# Altium footprint library con-hirschmann.PCBLIB: 22 footprints (part 1 of 2)
Each footprint in its own frame and in the unit in brackets; x right, y up, seen from the top. Pads: shape width x height; smd on the part's side, far side on the other; paste and mask are expansions set on the pad; w line width, h text height; cw(c..) or ccw(c..) is an arc to the next point about the centre after c.
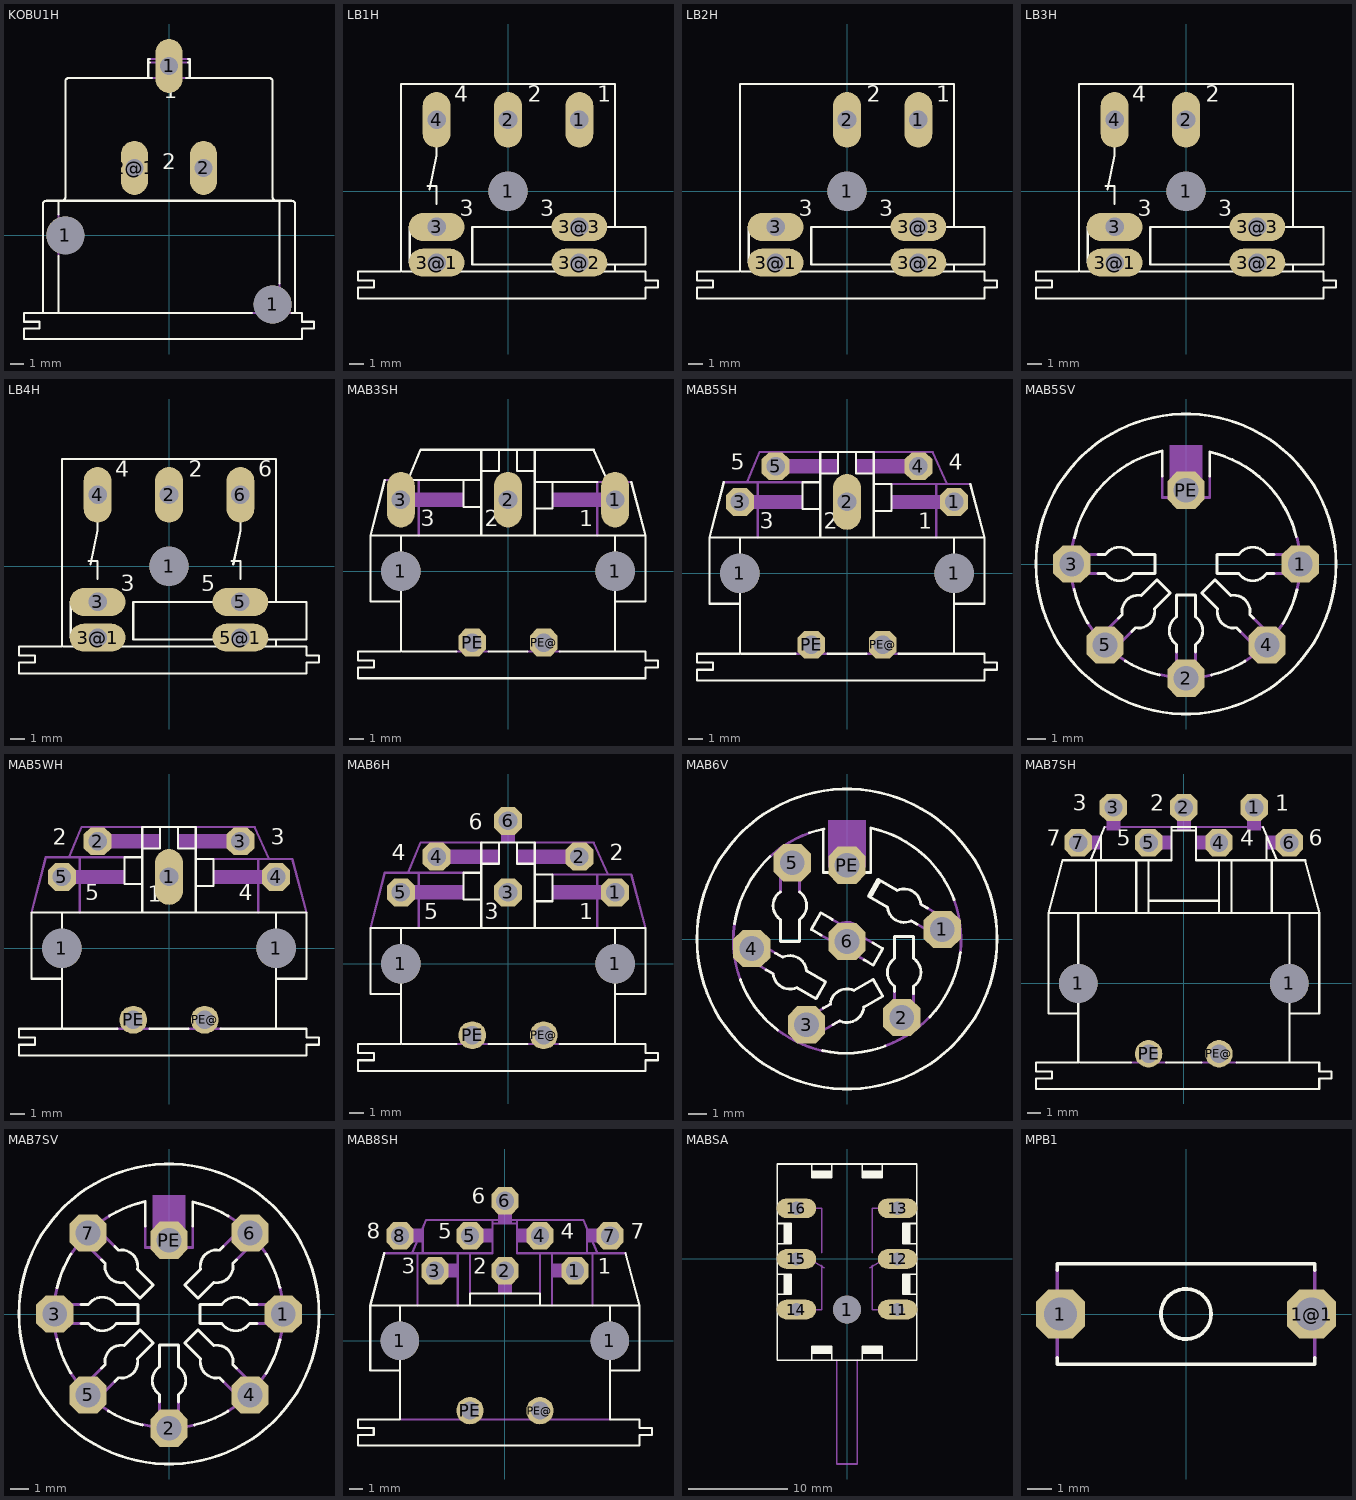
[diagram p0: the footprints below, top view; thin cyan lines are the x and y axes]

## KOBU1H [mil]
pads (5):
  round 110 hole 110: 1(-300,0) 1(300,-200)
  oval 78x156 hole 52: 1(0,490) 2(100,195) 2@1(-100,195)
Top Overlay:
  lines w6: -320,-60 -320,-225 ; -320,60 -320,100 ; -310,100 ccw(c-310,110) -300,110 -300,445 cw(c-290,445) -290,455 -60,455 ; -55,500 -60,500 ; -55,510 -60,510 -60,500 ; -50,455 -60,455 ; 50,455 60,455 ; 55,500 60,500 ; 55,510 60,510 60,500 ; 240,-225 -320,-225 ; 310,100 cw(c310,110) 300,110 300,445 ccw(c290,445) 290,455 60,455 ; 320,-140 320,100 ; 355,-225 365,-225 ; -365,-225 -420,-225 -420,-250 -375,-250 -375,-270 -420,-270 -420,-300 385,-300 385,-270 420,-270 420,-250 385,-250 385,-225 365,-225 ; -365,-225 -365,90 cw(c-355,90) -355,100 -320,100 ; -365,-225 -320,-225 ; -320,100 320,100 ; -60,455 -60,500 ; 60,455 60,500 ; 320,100 355,100 cw(c355,90) 365,90 365,-225
  text "1" at -15,380 h77.5
  text "2" at -20,175 h77.5
Mechanical 16:
  lines w6: -320,-60 -320,60 ; -55,500 55,500 ; -55,510 55,510 ; -50,455 50,455 ; 240,-225 320,-225 ; 320,-140 320,-225 ; 355,-225 320,-225

## LB1H [mil]
pads (8):
  round 110 hole 110: 1(0,0)
  oval 78x156 hole 52: 1(200,200) 2(0,200) 4(-200,200)
  oval 156x78 hole 52: 3(-200,-100) 3@1(-200,-200) 3@2(200,-200) 3@3(200,-100)
Top Overlay:
  lines w6: -295,-225 -255,-225 ; -260,-200 -275,-200 -275,-100 -260,-100 ; -225,15 -200,15 -200,-35 ; -220,5 -200,100 -200,140 ; -145,-225 145,-225 ; 140,-205 -100,-205 -100,-100 140,-100 ; 255,-225 300,-225 ; 255,-205 300,-205 ; 260,-100 300,-100 ; 300,-225 300,-205 ; 300,-225 385,-225 385,-250 420,-250 420,-270 385,-270 385,-300 -420,-300 -420,-270 -375,-270 -375,-250 -420,-250 -420,-225 -300,-225 -300,300 300,300 300,-100 ; 300,-205 385,-205 385,-100 300,-100
  text "2" at 55,235 h77.5
  text "1" at 250,235 h77.5
  text "4" at -150,235 h77.5
  text "3" at -135,-85 h77.5
  text "3" at 90,-85 h77.5
Mechanical 16:
  lines w6: -255,-225 -145,-225 ; 140,-205 255,-205 ; 140,-100 260,-100 ; 145,-225 255,-225

## LB2H [mil]
pads (7):
  round 110 hole 110: 1(0,0)
  oval 78x156 hole 52: 1(200,200) 2(0,200)
  oval 156x78 hole 52: 3(-200,-100) 3@1(-200,-200) 3@2(200,-200) 3@3(200,-100)
Top Overlay:
  lines w6: -295,-225 -255,-225 ; -260,-200 -275,-200 -275,-100 -260,-100 ; -145,-225 145,-225 ; 140,-205 -100,-205 -100,-100 140,-100 ; 255,-225 300,-225 ; 255,-205 300,-205 ; 260,-100 300,-100 ; 300,-225 300,-205 ; 300,-225 385,-225 385,-250 420,-250 420,-270 385,-270 385,-300 -420,-300 -420,-270 -375,-270 -375,-250 -420,-250 -420,-225 -300,-225 -300,300 300,300 300,-100 ; 300,-205 385,-205 385,-100 300,-100
  text "2" at 55,235 h77.5
  text "1" at 250,235 h77.5
  text "3" at -135,-85 h77.5
  text "3" at 90,-85 h77.5
Mechanical 16:
  lines w6: -255,-225 -145,-225 ; 140,-205 255,-205 ; 140,-100 260,-100 ; 145,-225 255,-225

## LB3H [mil]
pads (7):
  round 110 hole 110: 1(0,0)
  oval 78x156 hole 52: 2(0,200) 4(-200,200)
  oval 156x78 hole 52: 3(-200,-100) 3@1(-200,-200) 3@2(200,-200) 3@3(200,-100)
Top Overlay:
  lines w6: -295,-225 -255,-225 ; -260,-200 -275,-200 -275,-100 -260,-100 ; -225,15 -200,15 -200,-35 ; -220,5 -200,100 -200,140 ; -145,-225 145,-225 ; 140,-205 -100,-205 -100,-100 140,-100 ; 255,-225 300,-225 ; 255,-205 300,-205 ; 260,-100 300,-100 ; 300,-225 300,-205 ; 300,-225 385,-225 385,-250 420,-250 420,-270 385,-270 385,-300 -420,-300 -420,-270 -375,-270 -375,-250 -420,-250 -420,-225 -300,-225 -300,300 300,300 300,-100 ; 300,-205 385,-205 385,-100 300,-100
  text "2" at 55,235 h77.5
  text "4" at -150,235 h77.5
  text "3" at -135,-85 h77.5
  text "3" at 90,-85 h77.5
Mechanical 16:
  lines w6: -255,-225 -145,-225 ; 140,-205 255,-205 ; 140,-100 260,-100 ; 145,-225 255,-225

## LB4H [mil]
pads (8):
  round 110 hole 110: 1(0,0)
  oval 78x156 hole 52: 2(0,200) 4(-200,200) 6(200,200)
  oval 156x78 hole 52: 3(-200,-100) 3@1(-200,-200) 5(200,-100) 5@1(200,-200)
Top Overlay:
  lines w6: -295,-225 -255,-225 ; -260,-200 -275,-200 -275,-100 -260,-100 ; -225,15 -200,15 -200,-35 ; -220,5 -200,100 -200,140 ; -145,-225 145,-225 ; 140,-205 -100,-205 -100,-100 140,-100 ; 175,15 200,15 200,-35 ; 180,5 200,100 200,140 ; 255,-225 300,-225 ; 255,-205 300,-205 ; 260,-100 300,-100 ; 300,-225 300,-205 ; 300,-225 385,-225 385,-250 420,-250 420,-270 385,-270 385,-300 -420,-300 -420,-270 -375,-270 -375,-250 -420,-250 -420,-225 -300,-225 -300,300 300,300 300,-100 ; 300,-205 385,-205 385,-100 300,-100
  text "2" at 55,235 h77.5
  text "4" at -150,235 h77.5
  text "3" at -135,-85 h77.5
  text "5" at 90,-85 h77.5
  text "6" at 250,235 h77.5
Mechanical 16:
  lines w6: -255,-225 -145,-225 ; 140,-205 255,-205 ; 140,-100 260,-100 ; 145,-225 255,-225

## MAB3SH [mil]
pads (7):
  round 110 hole 110: 1(-300,0) 1(300,0)
  oval 78x156 hole 52: 1(300,200) 2(0,200) 3(-300,200)
  oct 78x78 hole 52: PE(-100,-200) PE@(100,-200)
Top Overlay:
  lines w6: -345,255 -385,100 ; -300,-55 -300,-85 ; -300,55 -300,100 ; -295,-225 -145,-225 ; -55,-225 55,-225 ; 145,-225 300,-225 ; 250,250 125,250 ; 280,250 240,340 75,340 ; 300,-55 300,-85 ; 300,55 300,100 ; 345,250 385,100 ; -385,100 -300,100 ; -385,100 -385,-85 -300,-85 ; -300,-85 -300,-225 -420,-225 -420,-250 -375,-250 -375,-270 -420,-270 -420,-300 385,-300 385,-270 420,-270 420,-250 385,-250 385,-225 300,-225 ; -300,100 -75,100 ; -125,255 -75,255 ; -125,255 -125,180 -75,180 ; -125,255 -280,255 -245,340 -75,340 ; -75,100 75,100 ; -75,100 -75,180 ; -75,180 -75,255 ; -75,255 -75,280 ; -75,280 -75,340 ; -75,280 -25,280 -25,340 ; -75,340 -25,340 ; -25,340 25,340 ; 25,340 75,340 ; 25,340 25,280 75,280 ; 75,100 300,100 ; 75,100 75,175 ; 75,175 75,250 ; 75,175 125,175 125,250 ; 75,250 125,250 ; 75,250 75,280 ; 75,280 75,340 ; 300,-225 300,-85 ; 300,-85 385,-85 385,100 ; 300,100 385,100
  text "2" at -65,110 h77.5
  text "3" at -245,110 h77.5
  text "1" at 200,110 h77.5
Mechanical 16:
  rectangle: 125,180 315,220
  rectangle: -315,180 -125,220
  lines w6: -345,255 -280,255 ; -300,-55 -300,55 ; -250,100 -250,255 ; -145,-225 -55,-225 ; 55,-225 145,-225 ; 250,100 250,250 345,250 ; 300,-55 300,55

## MAB5SH [mil]
pads (9):
  round 110 hole 110: 1(-300,0) 1(300,0)
  oct 78x78 hole 52: 1(300,200) 3(-300,200) 4(200,300) 5(-200,300) PE(-100,-200) PE@(100,-200)
  oval 78x156 hole 52: 2(0,200)
Top Overlay:
  lines w6: -345,255 -385,100 ; -300,-55 -300,-85 ; -300,55 -300,100 ; -295,-225 -145,-225 ; -55,-225 55,-225 ; 145,-225 300,-225 ; 300,-55 300,-85 ; 300,55 300,100 ; 345,250 385,100 ; -385,100 -300,100 ; -385,100 -385,-85 -300,-85 ; -300,-85 -300,-225 -420,-225 -420,-250 -375,-250 -375,-270 -420,-270 -420,-300 385,-300 385,-270 420,-270 420,-250 385,-250 385,-225 300,-225 ; -300,100 -75,100 ; -75,100 75,100 ; -75,100 -75,180 ; -75,180 -75,255 ; -75,180 -125,180 -125,255 -75,255 ; -75,255 -75,280 ; -75,280 -75,340 -25,340 ; -75,280 -25,280 -25,340 ; -25,340 25,340 ; 25,340 75,340 75,280 ; 25,340 25,280 75,280 ; 75,100 300,100 ; 75,100 75,175 ; 75,175 75,250 ; 75,175 125,175 125,250 75,250 ; 75,250 75,280 ; 300,-225 300,-85 ; 300,-85 385,-85 385,100 ; 300,100 385,100
  text "2" at -65,110 h77.5
  text "4" at 285,275 h77.5
  text "5" at -325,275 h77.5
  text "3" at -245,110 h77.5
  text "1" at 200,110 h77.5
Mechanical 16:
  rectangle: 125,180 315,220
  rectangle: 25,280 215,320
  rectangle: -215,280 -25,320
  rectangle: -315,180 -125,220
  lines w6: -345,255 -280,255 ; -300,-55 -300,55 ; -250,100 -250,255 ; -145,-225 -55,-225 ; -125,255 -250,255 ; -75,340 -245,340 -280,255 ; 55,-225 145,-225 ; 75,340 240,340 280,250 ; 125,250 250,250 ; 250,100 250,250 ; 300,-55 300,55 ; 345,250 280,250 ; -280,255 -250,255 ; 250,250 280,250

## MAB5SV [mil]
pads (6):
  oct 78x78 hole 52: 1(240,0) 2(0,-240) 3(-240,0) 4(170,-170) 5(-170,-170) PE(0,155)
Top Overlay:
  circle w6: c0,0 r315
  lines w6: -234.79,-53.72 ccw(c-1.01,1.01) -206,-124 ; -234.29,55.25 cw(c-0.01,2) -50,237 -50,185 ; -185,-20 -169,-20 ccw(c-140,0) -111,-20 -65,-20 -65,20 -111,20 ccw(c-140,0) -169,20 -185,20 ; -142,-114 -134,-106 cw(c-100,-100) -94,-66 -61,-33 -33,-61 -66,-94 cw(c-100,-100) -106,-134 -114,-142 ; -127.49,-203.55 ccw(c-1.01,1.99) -56,-233 ; -20,-185 -20,-169 cw(c0,-140) -20,-111 -20,-65 20,-65 20,-111 cw(c0,-140) 20,-169 20,-185 ; 50,185 50,235 cw(c-2,0) 231.61,57.92 ; 53.72,-232.79 ccw(c-1.01,0.99) 124,-204 ; 114,-142 106,-134 cw(c100,-100) 66,-94 33,-61 61,-33 94,-66 cw(c100,-100) 134,-106 142,-114 ; 185,-20 169,-20 cw(c140,0) 111,-20 65,-20 65,20 111,20 cw(c140,0) 169,20 185,20 ; 204.06,-124.65 ccw(c-2,1.01) 233,-54
Mechanical 16:
  rectangle: -35,150 35,250
  lines w6: -235,-55 cw(c0,0) -235,55 ; -206,-124 ccw(c-1,1) -126,-204 ; -184,-20 -215,-20 -215,20 -184,20 ; -144,-116 -167,-139 -139,-167 -116,-144 ; -55.78,-232.11 ccw(c1.01,1.99) 54,-233 ; -50,185 -50,140 50,140 50,185 ; -20,-184 -20,-215 20,-215 20,-184 ; 116,-144 139,-167 167,-139 144,-116 ; 124,-204 ccw(c-1,1) 204,-124 ; 184,-20 215,-20 215,20 184,20 ; 233,-54 ccw(c-2,1) 233,56

## MAB5WH [mil]
pads (9):
  round 110 hole 110: 1(-300,0) 1(300,0)
  oval 78x156 hole 52: 1(0,200)
  oct 78x78 hole 52: 2(-200,300) 3(200,300) 4(300,200) 5(-300,200)
  round 78 hole 52: PE(-100,-200) PE@(100,-200)
Top Overlay:
  lines w6: -300,-55 -300,-85 ; -300,55 -300,100 ; -295,-225 -145,-225 ; -55,-225 55,-225 ; 145,-225 300,-225 ; 300,-55 300,-85 ; 300,55 300,100 ; -300,-85 -300,-225 -420,-225 -420,-250 -375,-250 -375,-270 -420,-270 -420,-300 385,-300 385,-270 420,-270 420,-250 385,-250 385,-225 300,-225 ; -300,-85 -385,-85 -385,100 -300,100 ; -300,100 -75,100 ; -75,100 75,100 ; -75,100 -75,180 ; -75,180 -75,255 ; -75,180 -125,180 -125,255 -75,255 ; -75,255 -75,280 ; -75,280 -75,340 -25,340 ; -75,280 -25,280 -25,340 ; -25,340 25,340 ; 25,340 75,340 75,280 ; 25,340 25,280 75,280 ; 75,100 300,100 ; 75,100 75,175 ; 75,175 75,250 ; 75,175 125,175 125,250 75,250 ; 75,250 75,280 ; 300,-225 300,-85 ; 300,-85 385,-85 385,100 300,100
  text "1" at -60,115 h77.5
  text "4" at 195,120 h77.5
  text "3" at 285,275 h77.5
  text "2" at -325,275 h77.5
  text "5" at -235,120 h77.5
Mechanical 16:
  rectangle: 125,180 315,220
  rectangle: 25,280 215,320
  rectangle: -215,280 -25,320
  rectangle: -315,180 -125,220
  lines w6: -385,100 -345,255 -280,255 ; -300,-55 -300,55 ; -250,100 -250,255 ; -145,-225 -55,-225 ; -125,255 -250,255 ; -75,340 -245,340 -280,255 ; 55,-225 145,-225 ; 75,340 240,340 280,250 ; 125,250 250,250 ; 250,100 250,250 ; 300,-55 300,55 ; 385,100 345,250 280,250 ; -280,255 -250,255 ; 250,250 280,250

## MAB6H [mil]
pads (10):
  round 110 hole 110: 1(-300,0) 1(300,0)
  oct 78x78 hole 52: 1(300,200) 2(200,300) 3(0,200) 4(-200,300) 5(-300,200) 6(0,400)
  round 78 hole 52: PE(-100,-200) PE@(100,-200)
Top Overlay:
  lines w6: -300,-55 -300,-85 ; -300,55 -300,100 ; -295,-225 -145,-225 ; -55,-225 55,-225 ; 145,-225 300,-225 ; 300,-55 300,-85 ; 300,55 300,100 ; -300,-85 -300,-225 -420,-225 -420,-250 -375,-250 -375,-270 -420,-270 -420,-300 385,-300 385,-270 420,-270 420,-250 385,-250 385,-225 300,-225 ; -300,-85 -385,-85 -385,100 -300,100 ; -300,100 -75,100 ; -75,100 75,100 ; -75,100 -75,180 ; -75,180 -75,255 ; -75,180 -125,180 -125,255 -75,255 ; -75,255 -75,280 ; -75,280 -75,340 -25,340 ; -75,280 -25,280 -25,340 ; -25,340 25,340 ; 25,340 75,340 75,280 ; 25,340 25,280 75,280 ; 75,100 300,100 ; 75,100 75,175 ; 75,175 75,250 ; 75,175 125,175 125,250 75,250 ; 75,250 75,280 ; 300,-225 300,-85 ; 300,-85 385,-85 385,100 300,100
  text "1" at 200,110 h77.5
  text "3" at -65,110 h77.5
  text "5" at -235,110 h77.5
  text "4" at -325,275 h77.5
  text "6" at -110,360 h77.5
  text "2" at 285,275 h77.5
Mechanical 16:
  rectangle: 125,180 315,220
  rectangle: 25,280 215,320
  rectangle: -215,280 -25,320
  rectangle: -315,180 -125,220
  rectangle: -20,340 20,415
  lines w6: -385,100 -345,255 -280,255 ; -300,-55 -300,55 ; -250,100 -250,255 ; -145,-225 -55,-225 ; -125,255 -250,255 ; -75,340 -245,340 -280,255 ; 55,-225 145,-225 ; 75,340 240,340 280,250 ; 125,250 250,250 ; 250,100 250,250 ; 300,-55 300,55 ; 385,100 345,250 280,250 ; -280,255 -250,255 ; 250,250 280,250

## MAB6V [mil]
pads (7):
  oct 78x78 hole 52: 1(200,20) 2(115,-165) 3(-85,-180) 4(-200,-20) 5(-115,160) 6(0,-5) PE(0,155)
Top Overlay:
  circle w6: c0,0 r315
  lines w6: -236,32 cw(c1,-3) -161.54,173 ; -223.97,-85.24 ccw(c1.01,-1) -146,-191 ; -170,-65 -155,-73 ccw(c-120,-70) -105.09,-101.81 ; -150,-30 -135,-38 ; -140,99 ccw(c-120,70) -140,41 -140,-5 -100,-5 -100,41 ccw(c-120,70) -100,99 ; -134.91,-38.19 cw(c-120,-70) -85,-67 -45,-90 -65,-125 -105,-102 ; -79,223 cw(c-3.95,-3.97) -48.33,230.93 ; -54,8 -75,20 -55,55 -31,41 ; -51.64,-234.48 ccw(c-2,-5) 80,-225 ; -50,-145 -35,-137 ; -50,230 -50,140 -40,140 ; -35.21,-136.98 cw(c0,-140) 15,-108 55,-85 75,-120 35,-143 ; -30,-180 -15,-172 ccw(c0,-140) 35.21,-143.02 ; 36,-44 55,-55 75,-20 54,-8 ; 40,140 50,140 50,233 cw(c0,-2) 224.96,82.36 ; 52,92 67,118 ; 100,-110 100,-99 cw(c120,-70) 100,-41 100,5 140,5 140,-41 cw(c120,-70) 140,-99 140,-115 ; 105,102 65,125 45,90 85,67 ccw(c120,70) 134.91,38.19 ; 105.09,101.81 cw(c120,70) 155,73 169,65 ; 135,38 147,31 ; 173.71,-163.44 ccw(c0,2) 238,-28
Mechanical 16:
  rectangle: -40,150 40,250
  lines w6: -236.43,31.77 ccw(c1,-2) -224,-85 ; -162,173 cw(c0.01,-4) -77.08,223.23 ; -155,-73 -195,-50 -175,-15 -135,-38 ; -146.49,-190.44 ccw(c-0.01,0) -50,-235 ; -140,99 -140,145 -100,145 -100,99 ; -56,9 -35,-3 ccw(c0,0) 14.91,-31.81 ; -40,140 40,140 ; -35,-137 -75,-160 -55,-195 -15,-172 ; -34,43 -15,32 ; -14.91,31.81 cw(c0,0) 35,3 59,-11 ; 15,-32 40,-46 ; 82.38,-223.61 ccw(c-1.01,1.99) 174,-163 ; 100,-109 100,-145 140,-145 140,-114 ; 135,38 175,15 195,50 155,73 ; 224,84 cw(c-0.99,-1) 237.74,-30.23

## MAB7SH [mil]
pads (11):
  round 110 hole 110: 1(-300,0) 1(300,0)
  oct 78x78 hole 52: 1(200,500) 2(0,500) 3(-200,500) 4(100,400) 5(-100,400) 6(300,400) 7(-300,400)
  round 78 hole 52: PE(-100,-200) PE@(100,-200)
Top Overlay:
  lines w6: -300,-55 -300,-85 ; -300,55 -300,200 ; -295,-225 -150,-225 ; -225,445 -235,420 ; -50,-225 50,-225 ; 150,-225 300,-225 ; 225,445 235,420 ; 300,-55 300,-85 ; 300,55 300,200 ; -385,200 -385,-85 -300,-85 ; -385,200 -345,350 -265,350 ; -385,200 -300,200 ; -300,-85 -300,-225 -420,-225 -420,-250 -375,-250 -375,-270 -420,-270 -420,-300 385,-300 385,-270 420,-270 420,-250 385,-250 385,-225 300,-225 ; -300,200 -250,200 ; -265,350 -250,350 ; -265,350 -235,420 ; -250,200 -250,350 ; -250,200 -135,200 ; -250,350 -235,350 ; -235,350 -135,350 ; -235,350 -235,420 ; -135,200 -100,200 ; -135,200 -135,350 ; -135,350 -100,350 ; -100,200 100,200 ; -100,200 -100,235 ; -100,235 -100,350 ; -100,235 100,235 ; -100,350 -35,350 -35,435 ; -35,435 35,435 ; -35,435 -35,445 35,445 35,435 ; 35,435 35,350 100,350 ; 100,200 100,235 ; 100,200 135,200 ; 100,235 100,350 ; 100,350 135,350 ; 135,200 250,200 ; 135,200 135,350 ; 135,350 235,350 ; 235,350 250,350 ; 235,350 235,420 ; 235,420 265,350 ; 250,200 300,200 ; 250,200 250,350 ; 250,350 265,350 ; 265,350 345,350 385,200 ; 300,-225 300,-85 ; 300,-85 385,-85 385,200 ; 300,200 385,200
  text "5" at -190,375 h77.5
  text "7" at -390,375 h77.5
  text "6" at 355,375 h77.5
  text "4" at 160,375 h77.5
  text "1" at 260,475 h77.5
  text "2" at -95,475 h77.5
  text "3" at -315,475 h77.5
Mechanical 16:
  rectangle: 180,435 220,515
  rectangle: -220,435 -180,515
  rectangle: 235,380 315,420
  rectangle: 35,380 115,420
  rectangle: -115,380 -35,420
  rectangle: -315,380 -235,420
  rectangle: -20,435 20,515
  lines w6: -300,-55 -300,55 ; -225,445 -35,445 ; -150,-225 -50,-225 ; 35,445 225,445 ; 50,-225 150,-225 ; 300,-55 300,55

## MAB7SV [mil]
pads (8):
  oct 78x78 hole 52: 1(240,0) 2(0,-240) 3(-240,0) 4(170,-170) 5(-170,-170) 6(170,170) 7(-170,170) PE(0,155)
Top Overlay:
  circle w6: c0,0 r315
  lines w6: -235,55 cw(c0,-0.01) -206.06,125.65 ; -234.79,-53.72 ccw(c-1.01,1.01) -206,-124 ; -185,-20 -169,-20 ccw(c-140,0) -111,-20 -65,-20 -65,20 -111,20 ccw(c-140,0) -169,20 -185,20 ; -142,-114 -134,-106 cw(c-100,-100) -94,-66 -61,-33 -33,-61 -66,-94 cw(c-100,-100) -106,-134 -114,-142 ; -142,114 -134,106 ccw(c-100,100) -94,66 -61,33 -33,61 -66,94 ccw(c-100,100) -106,134 -114,142 ; -127.49,-203.55 ccw(c-1.01,1.99) -56,-233 ; -125.28,206.01 cw(c0,1.01) -50,236 -50,185 ; -20,-185 -20,-169 cw(c0,-140) -20,-111 -20,-65 20,-65 20,-111 cw(c0,-140) 20,-169 20,-185 ; 50,185 50,235 cw(c-0.01,-0.01) 124.41,205.54 ; 53.72,-232.79 ccw(c-1.01,0.99) 124,-204 ; 114,-142 106,-134 cw(c100,-100) 66,-94 33,-61 61,-33 94,-66 cw(c100,-100) 134,-106 142,-114 ; 114,142 106,134 ccw(c100,100) 66,94 33,61 61,33 94,66 ccw(c100,100) 134,106 142,114 ; 185,-20 169,-20 cw(c140,0) 111,-20 65,-20 65,20 111,20 cw(c140,0) 169,20 185,20 ; 204,126 cw(c-0.99,0.99) 232.79,55.72 ; 204.06,-124.65 ccw(c-2,1.01) 233,-54
Mechanical 16:
  rectangle: -35,150 35,250
  lines w6: -235,-55 cw(c0,0) -235,55 ; -206,-124 ccw(c-1,1) -126,-204 ; -205,126 cw(c0,1) -125,206 ; -184,-20 -215,-20 -215,20 -184,20 ; -144,-116 -167,-139 -139,-167 -116,-144 ; -144,116 -167,139 -139,167 -116,144 ; -55.78,-232.11 ccw(c1.01,1.99) 54,-233 ; -50,185 -50,140 50,140 50,185 ; -20,-184 -20,-215 20,-215 20,-184 ; 116,-144 139,-167 167,-139 144,-116 ; 116,144 139,167 167,139 144,116 ; 124,-204 ccw(c-1,1) 204,-124 ; 124,206 cw(c-1,1) 204,126 ; 184,-20 215,-20 215,20 184,20 ; 233,-54 ccw(c-2,1) 233,56

## MAB8SH [mil]
pads (12):
  round 110 hole 110: 1(-300,0) 1(300,0)
  oct 78x78 hole 52: 1(200,200) 2(0,200) 3(-200,200) 4(100,300) 5(-100,300) 6(0,400) 7(300,300) 8(-300,300)
  round 78 hole 52: PE(-100,-200) PE@(100,-200)
Top Overlay:
  lines w6: -345,250 -385,100 ; -300,-55 -300,-85 ; -300,55 -300,100 ; 300,-55 300,-85 ; 300,55 300,100 ; 345,250 385,100 ; -385,100 -385,-85 -300,-85 ; -385,100 -300,100 ; -300,-85 -300,-225 -420,-225 -420,-250 -375,-250 -375,-270 -420,-270 -420,-300 385,-300 385,-270 420,-270 420,-250 385,-250 385,-225 300,-225 300,-85 ; -300,100 -100,100 ; -100,100 100,100 ; -100,100 -100,135 100,135 100,100 ; 100,100 300,100 ; 300,-85 385,-85 385,100 ; 300,100 385,100
  text "2" at -90,175 h77.5
  text "8" at -395,275 h77.5
  text "1" at 265,175 h77.5
  text "3" at -295,175 h77.5
  text "5" at -190,275 h77.5
  text "7" at 360,275 h77.5
  text "6" at -95,375 h77.5
  text "4" at 160,275 h77.5
Mechanical 16:
  rectangle: 135,180 215,220
  rectangle: -215,180 -135,220
  rectangle: 235,280 315,320
  rectangle: 35,280 115,320
  rectangle: -115,280 -35,320
  rectangle: -315,280 -235,320
  rectangle: -20,135 20,215
  rectangle: -20,335 20,415
  lines w6: -345,250 -265,250 ; -300,-55 -300,55 ; -295,-225 300,-225 ; -250,100 -250,250 ; -135,100 -135,250 ; -100,135 -100,250 ; 100,135 100,250 ; 135,100 135,250 ; 250,100 250,250 ; 300,-55 300,55 ; 345,250 265,250 ; -265,250 -250,250 ; -265,250 -235,320 ; -250,250 -235,250 ; -235,250 -135,250 ; -235,250 -235,320 ; -235,320 -225,345 -35,345 ; -135,250 -100,250 ; -100,250 -35,250 -35,335 ; -35,335 35,335 ; -35,335 -35,345 ; -35,345 35,345 ; 35,335 35,345 ; 35,335 35,250 100,250 ; 35,345 225,345 235,320 ; 100,250 135,250 ; 135,250 235,250 ; 235,250 250,250 ; 235,250 235,320 ; 235,320 265,250 ; 250,250 265,250

## MABSA [mil]
pads (7):
  round 110 hole 110: 1(0,-200)
  oval 156x78 hole 52: 11(200,-200) 12(200,0) 13(200,200) 14(-200,-200) 15(-200,0) 16(-200,200)
Top Overlay:
  rectangle: 220,-140 250,-60
  rectangle: 220,60 250,140
  rectangle: -250,60 -220,140
  rectangle: -250,-140 -220,-60
  rectangle: 60,-375 140,-345
  rectangle: -140,-375 -60,-345
  rectangle: -140,320 -60,350
  rectangle: 60,320 140,350
  lines w6: -275,-140 -275,-400 -140,-400 ; -275,-140 -275,-60 ; -275,-140 -220,-140 -220,-60 -275,-60 ; -275,-60 -275,60 ; -275,60 -275,140 ; -275,60 -220,60 -220,140 -275,140 ; -275,140 -275,375 -140,375 ; -140,-400 -60,-400 ; -140,-400 -140,-345 -60,-345 -60,-400 ; -140,375 -60,375 ; -140,375 -140,320 -60,320 -60,375 ; -60,-400 60,-400 ; -60,375 60,375 ; 60,-400 140,-400 ; 60,-400 60,-345 140,-345 140,-400 ; 60,375 140,375 ; 60,375 60,320 140,320 140,375 ; 140,-400 275,-400 275,-140 ; 140,375 275,375 275,140 ; 275,-140 220,-140 220,-60 275,-60 ; 275,-140 275,-60 ; 275,-60 275,60 ; 275,60 275,140 ; 275,60 220,60 220,140 275,140
Mechanical 16:
  lines w6: -175,-200 -100,-200 -100,-25 ; -175,0 -150,0 -90,-35 ; -175,200 -100,200 -100,25 ; -40,-400 -40,-810 40,-810 40,-400 ; 90,-35 150,0 175,0 ; 100,-25 100,-200 175,-200 ; 100,25 100,200 175,200
  text "11" at 100,-270 h77.5
  text "13" at 100,220 h77.5
  text "16" at -170,220 h77.5
  text "14" at -170,-270 h77.5
  text "15" at -200,-80 h77.5
  text "12" at 115,-85 h77.5

## MPB1 [mil]
pads (2):
  oct 78x78 hole 52: 1(-200,0) 1@1(200,0)
Top Overlay:
  circle w6: c0,0 r40
  lines w6: -205,-70 -205,-80 205,-80 205,-70 ; -205,70 -205,80 205,80 205,70
Mechanical 16:
  lines w6: -205,-70 -205,70 ; 205,-70 205,70